# Altium footprint library PowerInductors.PCBLIB: 52 footprints (part 1 of 4)
Each footprint in its own frame and in the unit in brackets; x right, y up, seen from the top. Pads: shape width x height; smd on the part's side, far side on the other; paste and mask are expansions set on the pad; w line width, h text height; cw(c..) or ccw(c..) is an arc to the next point about the centre after c.
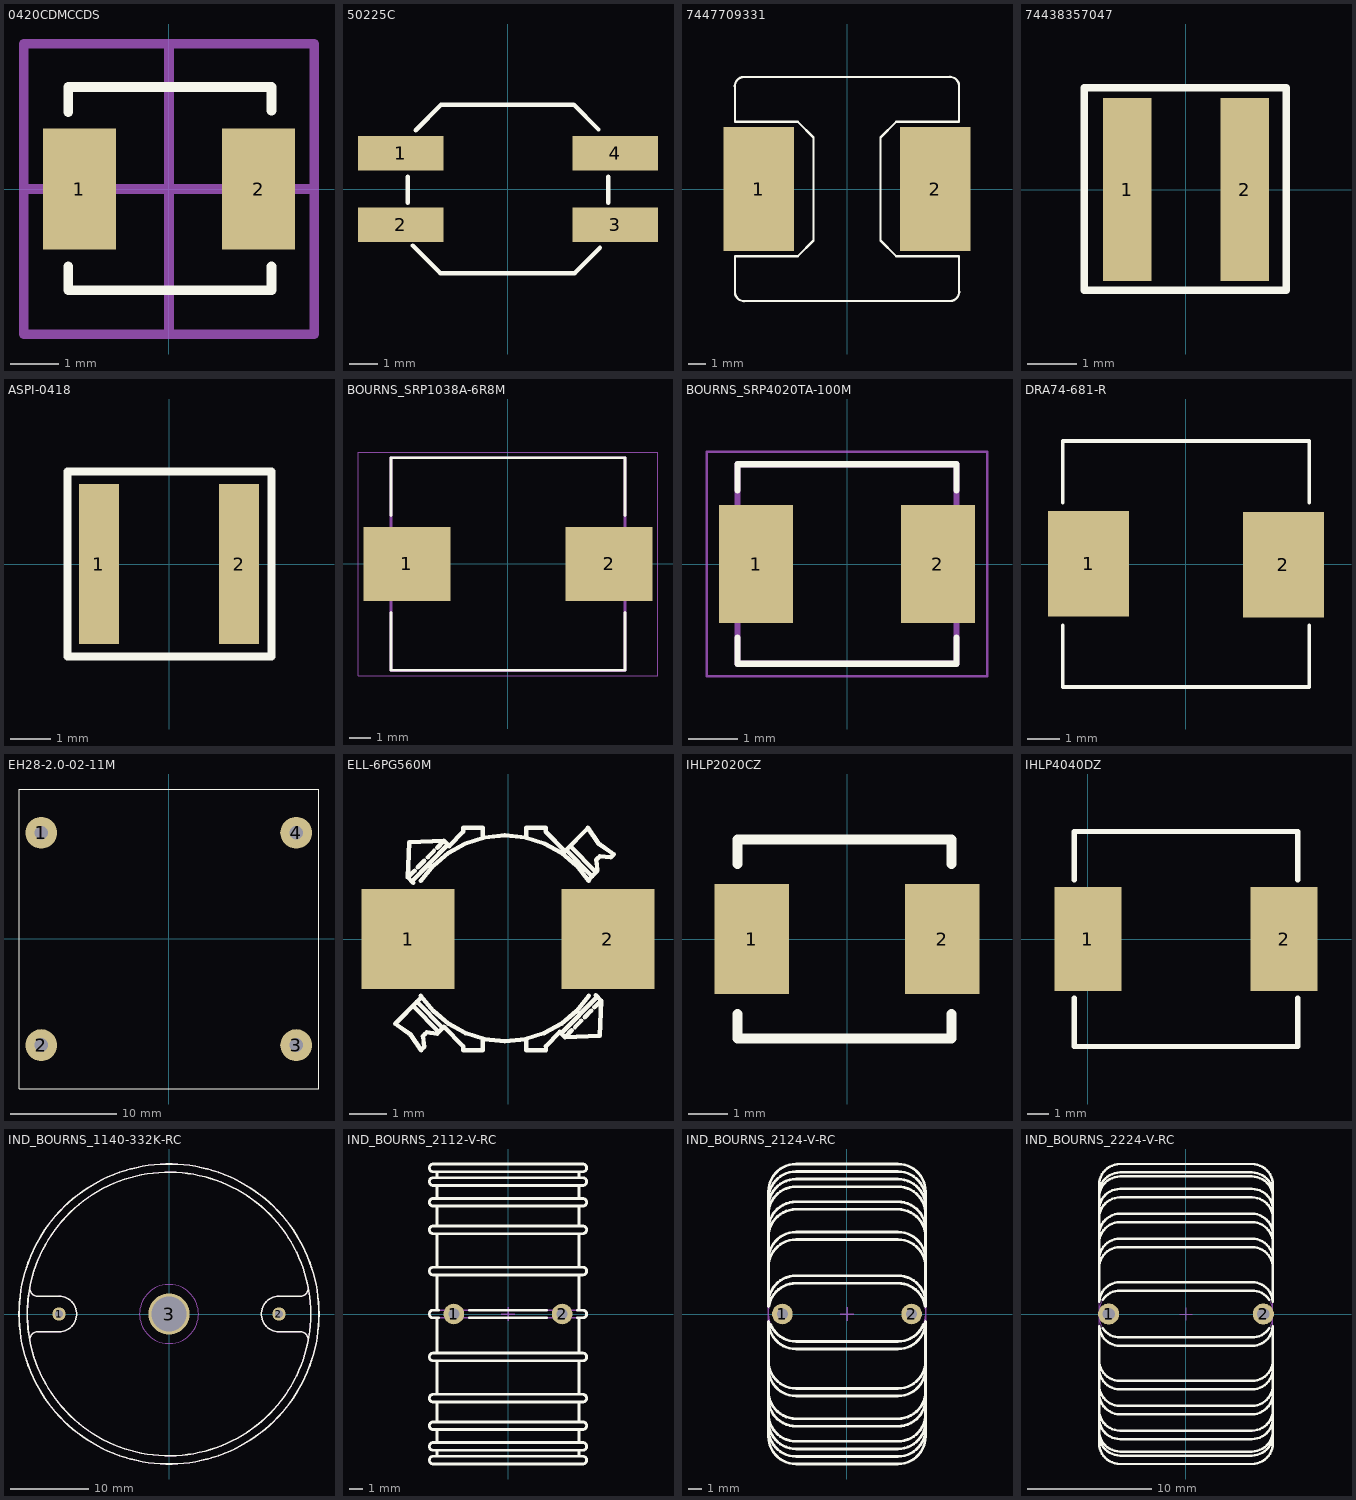
[diagram p0: the footprints below, top view; thin cyan lines are the x and y axes]

## 0420CDMCCDS [mm]
pads (2):
  rect 1.5x2.5 smd: 1(-1.85,0) 2(1.85,0)
Top Overlay:
  lines w0.2: -2.083,-1.6 -2.083,-2.092 2.117,-2.092 2.117,-1.6 ; -2.083,1.591 -2.083,2.083 ; -2.083,2.108 2.117,2.108 2.117,1.617
Mechanical 15:
  lines w0.2: -3,0 0,0 ; -3,0 -3,3 0,3 ; -3,0 -3,-3 0,-3 ; 0,-3 0,0 ; 0,-3 3,-3 3,0 ; 0,0 0,3 ; 0,0 3,0 ; 0,3 3,3 3,0
3D body: height 1.8, standoff 0, extent -2.083,-2.092 2.117,2.108
3D body: height 0.6, standoff 0, extent -2.358,-1.016 -1.85,1.016
3D body: height 0.6, standoff 0, extent 1.863,-1.016 2.371,1.016

## 50225C [mm]
pads (4):
  rect 3x1.2 smd mask+0.05: 1(-3.75,1.25) 2(-3.75,-1.25) 3(3.75,-1.25) 4(3.75,1.25)
Top Overlay:
  lines w0.15: -3.51,-0.479 -3.51,0.435 ; -3.333,-1.978 -2.367,-2.943 2.332,-2.943 3.221,-2.054 ; -3.231,2.061 -2.342,2.95 2.306,2.95 3.17,2.086 ; 3.51,-0.479 3.51,0.435
3D body "mps_mag_5000_smt_a.STEP": height 4.04, standoff 0.01, extent -4.605,-2.959 4.595,2.941

## 7447709331 [mm] "0.472\" L x 0.472\" A (12.00 mm x 12.00 mm) H 0.394\" (10.00 mm)"
pads (2):
  rect 4x7 smd: 1(-5,0) 2(5,0)
Top Overlay:
  lines w0.127: -6.35,-5.8 ccw(c-5.823,-5.827) -5.75,-6.35 5.8,-6.35 ccw(c5.827,-5.823) 6.35,-5.75 6.35,-3.81 2.794,-3.81 1.9,-2.916 1.9,2.916 2.794,3.81 6.35,3.81 6.35,5.8 ccw(c5.823,5.827) 5.75,6.35 -5.8,6.35 ccw(c-5.827,5.823) -6.35,5.75 -6.35,3.81 -2.794,3.81 -1.9,2.916 -1.9,-2.916 -2.794,-3.81 -6.35,-3.81 -6.35,-5.8
3D body: height 10, standoff 0, extent -5.842,-5.842 5.842,5.848
3D body: height 10.1, standoff 0, extent -5.08,-5.08 5.08,5.08
3D body: height 1.5, standoff 0, extent -6.159,-3.175 -5.524,3.175
3D body: height 1.5, standoff 0, extent 5.525,-3.175 6.16,3.175

## 74438357047 [mm]
pads (2):
  rect 0.98x3.7 smd: 1(-1.185,0) 2(1.185,0)
Top Overlay:
  lines w0.15: -2.057,-2.032 -2.057,2.057 2.032,2.057 2.032,-2.032 -2.057,-2.032
3D body "74438357047_Download_WE-MAPI-4030_stp_rev1.stp": height 3.11, standoff 0.01, extent -2.05,-2.05 2.05,2.05

## ASPI-0418 [mm]
pads (2):
  rect 1x4 smd: 1(-1.753,0) 2(1.753,0)
Top Overlay:
  lines w0.2: -2.54,-2.311 2.565,-2.311 2.565,2.311 2.134,2.311 -2.54,2.311 -2.54,-2.311
3D body "ASPI-0418FS.STEP": height 1.8, standoff 0, extent -2,-2.025 2,1.975

## BOURNS_SRP1038A-6R8M [mm] "0.433\" L x 0.394\" W (11.00mm x 10.00mm), 0.157\" (4.00mm) HEIGHT"
pads (2):
  rect 4.1x3.5 smd: 1(-4.75,0) 2(4.75,0)
Top Overlay:
  lines w0.127: -5.5,-2.28 -5.5,-5 5.5,-5 5.5,-2.28 ; -5.5,2.28 -5.5,5 5.5,5 5.5,2.28
Mechanical 13:
  lines w0.127: -5.5,5 5.5,5
  lines w0.13: -5.5,5 -5.5,-5 5.5,-5 5.5,5
Mechanical 15:
  lines w0.05: -7.05,-5.25 -7.05,5.25 7.05,5.25 7.05,-5.25 -7.05,-5.25
3D body "74437368010_Download_STP_WE-LHMI-1040_rev1.stp": height 3.8, standoff 0, extent -5.5,-5 5.5,5

## BOURNS_SRP4020TA-100M [mm] "0.175\" L x 0.160\" W (4.45mm x 4.06mm), 2 SMD"
pads (2):
  rect 1.5x2.4 smd: 1(-1.85,0) 2(1.85,0)
Top Overlay:
  lines w0.127: -2.225,-1.5 -2.225,-2.03 2.225,-2.03 2.225,-1.5 ; -2.225,1.5 -2.225,2.03 2.225,2.03 2.225,1.5
Mechanical 13:
  lines w0.127: -2.225,-2.03 2.225,-2.03 2.225,2.03 -2.225,2.03 -2.225,-2.03
Mechanical 15:
  lines w0.05: -2.85,-2.28 2.85,-2.28 2.85,2.28 -2.85,2.28 -2.85,-2.28
3D body "SRP4020TA-100M.STEP": height 2, standoff 0, extent -2.225,-2.03 2.225,2.03

## DRA74-681-R [mm]
pads (2):
  rect 2.5x3.25 smd: 1(-3,0.013) 2(3,-0.013)
Top Overlay:
  lines w0.12: -3.8,-1.889 -3.8,-3.787 3.8,-3.787 3.8,-1.889 ; -3.8,1.909 -3.8,3.807 3.8,3.807 3.8,1.909
3D body: height 4.3, standoff 0, extent -3.81,-3.759 3.785,3.787
3D body: height 4.35, standoff 1, extent -3.013,-2.986 2.987,3.014
3D body: height 1, standoff 0, extent 3.632,-1.626 4.013,1.626
3D body: height 1, standoff 0, extent -4.013,-1.626 -3.632,1.626

## EH28-2.0-02-11M [mm]
pads (4):
  round 3 hole 1.3: 1(-12,10) 2(-12,-10) 3(12,-10) 4(12,10)
Top Overlay:
  lines w0.1: -14.057,-14.13 -14.057,14.115 14.111,14.115 14.111,-14.13 -14.057,-14.13
3D body "eh_28-2_0-02-11m.stp": height 23.11, standoff -3.99, extent -14.061,-14.092 14.139,14.108

## ELL-6PG560M [mm]
pads (2):
  rect 2.5x2.7 smd: 1(-2.7,0) 2(2.7,0)
Top Overlay:
  lines w0.12: -2.599,1.561 -1.625,2.552 ; -2.564,-1.797 -1.868,-2.504 ; -2.564,1.526 -2.702,1.667 ; -2.52,1.853 -2.702,1.667 ; -2.459,-1.691 -1.764,-2.398 ; -2.433,1.942 -2.259,2.119 ; -2.35,-1.527 -2.016,-1.938 -1.611,-2.277 -1.147,-2.533 -0.633,-2.695 -0.082,-2.751 0.469,-2.695 0.983,-2.533 1.447,-2.277 1.852,-1.938 2.186,-1.527 ; -2.35,1.579 -2.016,1.99 -1.611,2.329 -1.147,2.585 -0.633,2.747 -0.082,2.803 0.469,2.747 0.983,2.585 1.447,2.329 1.852,1.99 2.186,1.579 ; -2.349,-1.582 -2.424,-1.656 -3.043,-2.285 -2.633,-2.575 -2.348,-2.992 -2.265,-2.907 -2.296,-2.614 ; -2.172,2.207 -1.998,2.384 ; -1.912,2.472 -1.729,2.657 ; -0.685,2.738 -0.685,3.006 -1.207,3.006 -1.207,2.906 -1.59,2.517 -1.729,2.657 ; -0.685,-2.726 -0.685,-2.994 -1.207,-2.994 -1.207,-2.894 -1.729,-2.362 -1.91,-2.547 -2.199,-2.515 ; 0.496,-2.732 0.496,-2.994 1.027,-2.994 1.026,-2.894 ; 0.496,2.744 0.496,3.006 1.018,3.006 ; 1.017,-2.894 1.4,-2.504 1.539,-2.645 ; 1.017,3.006 1.017,2.906 1.539,2.375 2.158,3.004 2.444,2.587 2.854,2.296 2.771,2.212 2.483,2.244 ; 1.435,-2.539 2.409,-1.55 ; 1.574,2.41 2.27,1.703 ; 1.678,2.517 2.374,1.809 ; 1.722,-2.46 1.539,-2.645 ; 1.809,-2.371 1.983,-2.194 ; 2.069,-2.106 2.243,-1.93 ; 2.178,1.608 2.235,1.667 2.416,1.852 2.385,2.145 ; 2.331,-1.842 2.513,-1.656 ; 2.374,-1.514 2.513,-1.656 ; -2.702,1.667 -2.667,2.623 -1.729,2.657 ; -2.296,-2.614 -2.199,-2.515 ; -2.296,-2.614 -2.247,-2.565 -2.199,-2.515 ; 1.539,-2.645 2.479,-2.61 2.513,-1.656 ; 2.385,2.145 2.483,2.245 ; 2.385,2.145 2.434,2.195 2.483,2.245
3D body "IND_ELL6PG.step": height 2.32, standoff 0.01, extent -3.486,-3.19 3.422,3.11

## IHLP2020CZ [mm]
pads (2):
  rect 1.905x2.79 smd: 1(-2.425,0) 2(2.425,0)
Top Overlay:
  lines w0.254: -2.794,-1.905 -2.794,-2.54 2.667,-2.54 2.667,-1.905 ; -2.794,1.905 -2.794,2.54 2.667,2.54 2.667,1.905
3D body "IHLP2020CZ.STEP": height 2.89, standoff 0.03, extent -2.725,-2.54 2.725,2.606

## IHLP4040DZ [mm]
pads (2):
  rect 3.175x4.9 smd: 1(0,0) 2(9.271,0)
Top Overlay:
  lines w0.254: -0.635,-2.794 -0.635,-5.08 9.906,-5.08 9.906,-2.794 ; -0.635,2.794 -0.635,5.08 9.906,5.08 9.906,2.794
3D body "IHLP4040DZ (2.2-100uH).STEP": height 3.89, standoff 0.01, extent -0.676,-5.108 9.947,5.108

## IND_BOURNS_1140-332K-RC [mm] "High Current Choke, Body Diameter 38.1mm Boby Height 26.162mm"
height 26.162
pads (3):
  round 1.7 hole 1: 1(-13.97,0) 2(13.97,0)
  round 5.2 / inner round 5.2 / far side round 7.5 hole 4.5: 3(0,0)
Top Overlay:
  circle w0.2: c0,0 r18
  circle w0.2: c0,0 r19.05
  lines w0.2: -17.668,-3.441 cw(c-16.686,-3.25) -16.686,-2.25 -13.97,-2.25 ccw(c-13.97,0) -13.97,2.25 -16.686,2.25 cw(c-16.686,3.25) -17.668,3.441 ; 17.668,-3.441 ccw(c16.686,-3.25) 16.686,-2.25 13.97,-2.25 cw(c13.97,0) 13.97,2.25 16.686,2.25 ccw(c16.686,3.25) 17.668,3.441
Mechanical 8:
  circle w0.1: c0,0 r3.75
  lines w0.1: -14.47,0 -13.97,0 ; -13.97,-0.5 -13.97,0 ; -13.97,0.5 -13.97,0 ; -13.47,0 -13.97,0 ; -0.5,0 0,0 ; 0,-0.5 0,0 ; 0,0.5 0,0 ; 0.5,0 0,0 ; 13.47,0 13.97,0 ; 13.97,-0.5 13.97,0 ; 13.97,0.5 13.97,0 ; 14.47,0 13.97,0
Mechanical 14:
  circle w0.1: c0,0 r18
  circle w0.1: c0,0 r2.25
  circle w0.1: c0,0 r19.05
  lines w0.1: -17.668,-3.441 cw(c-16.686,-3.25) -16.686,-2.25 -13.97,-2.25 ccw(c-13.97,0) -13.97,2.25 -16.686,2.25 cw(c-16.686,3.25) -17.668,3.441 ; 17.668,-3.441 ccw(c16.686,-3.25) 16.686,-2.25 13.97,-2.25 cw(c13.97,0) 13.97,2.25 16.686,2.25 ccw(c16.686,3.25) 17.668,3.441
3D body "IND_BOURNS_1140-332K-RC.stp": height 26.16, standoff -3.5, extent -19.05,-19.012 19.05,19.024

## IND_BOURNS_2112-V-RC [mm] "Vertical Leaded Toroidal Inductor Lead Spacing 7.87mm D21.84mm x W11.43mm"
height 21.84
pads (2):
  round 1.5 hole 0.8: 1(-3.937,0) 2(3.937,0)
Top Overlay:
  lines w0.2: -5.155,-10.34 -5.155,-9.9 ; -5.155,-9.34 -5.155,-8.4 ; -5.155,-7.84 -5.155,-6.4 ; -5.155,-5.84 -5.155,-3.4 ; -5.155,-2.84 -5.155,-0.28 ; -5.155,0.28 -5.155,2.84 ; -5.155,3.4 -5.155,5.84 ; -5.155,6.4 -5.155,7.84 ; -5.155,8.4 -5.155,9.34 ; -5.155,9.9 -5.155,10.34 ; -5.052,-0.28 -5.435,-0.28 cw(c-5.435,0) -5.435,0.28 -5.052,0.28 ; -2.822,-0.28 2.822,-0.28 ; -2.822,0.28 2.822,0.28 ; 5.052,-0.28 5.435,-0.28 ccw(c5.435,0) 5.435,0.28 ; 5.155,-10.34 5.155,-9.9 ; 5.155,-9.34 5.155,-8.4 ; 5.155,-7.84 5.155,-6.4 ; 5.155,-5.84 5.155,-3.4 ; 5.155,-2.84 5.155,-0.28 ; 5.155,0.28 5.155,2.84 ; 5.155,3.4 5.155,5.84 ; 5.155,6.4 5.155,7.84 ; 5.155,8.4 5.155,9.34 ; 5.155,9.9 5.155,10.34 ; 5.435,0.28 5.052,0.28 5.435,0.28 ; -5.435,-10.9 cw(c-5.435,-10.62) -5.435,-10.34 5.435,-10.34 cw(c5.435,-10.62) 5.435,-10.9 -5.435,-10.9 ; -5.435,-9.9 cw(c-5.435,-9.62) -5.435,-9.34 5.435,-9.34 cw(c5.435,-9.62) 5.435,-9.9 -5.435,-9.9 ; -5.435,-8.4 cw(c-5.435,-8.12) -5.435,-7.84 5.435,-7.84 cw(c5.435,-8.12) 5.435,-8.4 -5.435,-8.4 ; -5.435,-6.4 cw(c-5.435,-6.12) -5.435,-5.84 5.435,-5.84 cw(c5.435,-6.12) 5.435,-6.4 -5.435,-6.4 ; -5.435,-3.4 cw(c-5.435,-3.12) -5.435,-2.84 5.435,-2.84 cw(c5.435,-3.12) 5.435,-3.4 -5.435,-3.4 ; -5.435,2.84 cw(c-5.435,3.12) -5.435,3.4 5.435,3.4 cw(c5.435,3.12) 5.435,2.84 -5.435,2.84 ; -5.435,5.84 cw(c-5.435,6.12) -5.435,6.4 5.435,6.4 cw(c5.435,6.12) 5.435,5.84 -5.435,5.84 ; -5.435,7.84 cw(c-5.435,8.12) -5.435,8.4 5.435,8.4 cw(c5.435,8.12) 5.435,7.84 -5.435,7.84 ; -5.435,9.34 cw(c-5.435,9.62) -5.435,9.9 5.435,9.9 cw(c5.435,9.62) 5.435,9.34 -5.435,9.34 ; -5.435,10.34 cw(c-5.435,10.62) -5.435,10.9 5.435,10.9 cw(c5.435,10.62) 5.435,10.34 -5.435,10.34
Mechanical 8:
  lines w0.1: -4.437,0 -3.937,0 ; -3.937,-0.5 -3.937,0 ; -3.937,0.5 -3.937,0 ; -3.437,0 -3.937,0 ; -0.5,0 0,0 ; 0,-0.5 0,0 ; 0,0.5 0,0 ; 0.5,0 0,0 ; 3.437,0 3.937,0 ; 3.937,-0.5 3.937,0 ; 3.937,0.5 3.937,0 ; 4.437,0 3.937,0
Mechanical 14:
  lines w0.1: -5.155,-10.34 -5.155,-9.9 ; -5.155,-9.34 -5.155,-8.4 ; -5.155,-7.84 -5.155,-6.4 ; -5.155,-5.84 -5.155,-3.4 ; -5.155,-2.84 -5.155,-0.28 ; -5.155,0.28 -5.155,2.84 ; -5.155,3.4 -5.155,5.84 ; -5.155,6.4 -5.155,7.84 ; -5.155,8.4 -5.155,9.34 ; -5.155,9.9 -5.155,10.34 ; 5.155,-10.34 5.155,-9.9 ; 5.155,-9.34 5.155,-8.4 ; 5.155,-7.84 5.155,-6.4 ; 5.155,-5.84 5.155,-3.4 ; 5.155,-2.84 5.155,-0.28 ; 5.155,0.28 5.155,2.84 ; 5.155,3.4 5.155,5.84 ; 5.155,6.4 5.155,7.84 ; 5.155,8.4 5.155,9.34 ; 5.155,9.9 5.155,10.34 ; -5.435,-10.9 cw(c-5.435,-10.62) -5.435,-10.34 5.435,-10.34 cw(c5.435,-10.62) 5.435,-10.9 -5.435,-10.9 ; -5.435,-9.9 cw(c-5.435,-9.62) -5.435,-9.34 5.435,-9.34 cw(c5.435,-9.62) 5.435,-9.9 -5.435,-9.9 ; -5.435,-8.4 cw(c-5.435,-8.12) -5.435,-7.84 5.435,-7.84 cw(c5.435,-8.12) 5.435,-8.4 -5.435,-8.4 ; -5.435,-6.4 cw(c-5.435,-6.12) -5.435,-5.84 5.435,-5.84 cw(c5.435,-6.12) 5.435,-6.4 -5.435,-6.4 ; -5.435,-3.4 cw(c-5.435,-3.12) -5.435,-2.84 5.435,-2.84 cw(c5.435,-3.12) 5.435,-3.4 -5.435,-3.4 ; -5.435,-0.28 cw(c-5.435,0) -5.435,0.28 5.435,0.28 cw(c5.435,0) 5.435,-0.28 -5.435,-0.28 ; -5.435,2.84 cw(c-5.435,3.12) -5.435,3.4 5.435,3.4 cw(c5.435,3.12) 5.435,2.84 -5.435,2.84 ; -5.435,5.84 cw(c-5.435,6.12) -5.435,6.4 5.435,6.4 cw(c5.435,6.12) 5.435,5.84 -5.435,5.84 ; -5.435,7.84 cw(c-5.435,8.12) -5.435,8.4 5.435,8.4 cw(c5.435,8.12) 5.435,7.84 -5.435,7.84 ; -5.435,9.34 cw(c-5.435,9.62) -5.435,9.9 5.435,9.9 cw(c5.435,9.62) 5.435,9.34 -5.435,9.34 ; -5.435,10.34 cw(c-5.435,10.62) -5.435,10.9 5.435,10.9 cw(c5.435,10.62) 5.435,10.34 -5.435,10.34
3D body "IND_BOURNS_2112-V-RC.stp": height 21.8, standoff -3.32, extent -5.715,-10.9 5.715,10.9

## IND_BOURNS_2124-V-RC [mm] "Vertical Leaded Toroidal Inductor Lead Spacing  9.39mm D21.84mm x W11.43mm"
height 21.84
pads (2):
  round 1.5 hole 0.8: 1(-4.7,0) 2(4.7,0)
Top Overlay:
  lines w0.2: -5.715,-8.37 ccw(c-3.715,-8.37) -3.715,-10.37 3.715,-10.37 ccw(c3.715,-8.37) 5.715,-8.37 ; -5.715,-7.82 ccw(c-3.715,-7.82) -3.715,-9.82 3.715,-9.82 ccw(c3.715,-7.82) 5.715,-7.82 ; -5.715,-7.27 ccw(c-3.715,-7.27) -3.715,-9.27 3.715,-9.27 ccw(c3.715,-7.27) 5.715,-7.27 ; -5.715,-6.17 ccw(c-3.715,-6.17) -3.715,-8.17 3.715,-8.17 ccw(c3.715,-6.17) 5.715,-6.17 ; -5.715,-5.62 ccw(c-3.715,-5.62) -3.715,-7.62 3.715,-7.62 ccw(c3.715,-5.62) 5.715,-5.62 ; -5.715,-3.97 ccw(c-3.715,-3.97) -3.715,-5.97 3.715,-5.97 ccw(c3.715,-3.97) 5.715,-3.97 ; -5.715,-3.42 ccw(c-3.715,-3.42) -3.715,-5.42 3.715,-5.42 ccw(c3.715,-3.42) 5.715,-3.42 ; -5.715,-0.55 ccw(c-3.715,-0.55) -3.715,-2.55 3.715,-2.55 ccw(c3.715,-0.55) 5.715,-0.55 ; -5.715,-0.541 -5.715,-8.92 ccw(c-3.715,-8.92) -3.715,-10.92 3.715,-10.92 ccw(c3.715,-8.92) 5.715,-8.92 5.715,-0.541 ; -5.715,0.541 -5.715,8.92 cw(c-3.715,8.92) -3.715,10.92 3.715,10.92 cw(c3.715,8.92) 5.715,8.92 5.715,0.541 ; -5.715,0.79 cw(c-3.715,0.79) -3.715,2.79 3.715,2.79 cw(c3.715,0.79) 5.715,0.79 ; -5.715,3.42 cw(c-3.715,3.42) -3.715,5.42 3.715,5.42 cw(c3.715,3.42) 5.715,3.42 ; -5.715,3.97 cw(c-3.715,3.97) -3.715,5.97 3.715,5.97 cw(c3.715,3.97) 5.715,3.97 ; -5.715,5.62 cw(c-3.715,5.62) -3.715,7.62 3.715,7.62 cw(c3.715,5.62) 5.715,5.62 ; -5.715,6.17 cw(c-3.715,6.17) -3.715,8.17 3.715,8.17 cw(c3.715,6.17) 5.715,6.17 ; -5.715,7.27 cw(c-3.715,7.27) -3.715,9.27 3.715,9.27 cw(c3.715,7.27) 5.715,7.27 ; -5.715,7.82 cw(c-3.715,7.82) -3.715,9.82 3.715,9.82 cw(c3.715,7.82) 5.715,7.82 ; -5.715,8.37 cw(c-3.715,8.37) -3.715,10.37 3.715,10.37 cw(c3.715,8.37) 5.715,8.37 ; -5.683,0.597 cw(c-3.715,0.24) -3.715,2.24 3.715,2.24 cw(c3.715,0.24) 5.683,0.597 ; -5.567,-0.756 ccw(c-3.715,0) -3.715,-2 3.715,-2 ccw(c3.715,0) 5.567,-0.756
Mechanical 8:
  lines w0.1: -5.2,0 -4.7,0 ; -4.7,-0.5 -4.7,0 ; -4.7,0.5 -4.7,0 ; -4.2,0 -4.7,0 ; -0.5,0 0,0 ; 0,-0.5 0,0 ; 0,0.5 0,0 ; 0.5,0 0,0 ; 4.2,0 4.7,0 ; 4.7,-0.5 4.7,0 ; 4.7,0.5 4.7,0 ; 5.2,0 4.7,0
Mechanical 14:
  lines w0.1: -5.715,-8.37 ccw(c-3.715,-8.37) -3.715,-10.37 3.715,-10.37 ccw(c3.715,-8.37) 5.715,-8.37 ; -5.715,-7.82 ccw(c-3.715,-7.82) -3.715,-9.82 3.715,-9.82 ccw(c3.715,-7.82) 5.715,-7.82 ; -5.715,-7.27 ccw(c-3.715,-7.27) -3.715,-9.27 3.715,-9.27 ccw(c3.715,-7.27) 5.715,-7.27 ; -5.715,-6.17 ccw(c-3.715,-6.17) -3.715,-8.17 3.715,-8.17 ccw(c3.715,-6.17) 5.715,-6.17 ; -5.715,-5.62 ccw(c-3.715,-5.62) -3.715,-7.62 3.715,-7.62 ccw(c3.715,-5.62) 5.715,-5.62 ; -5.715,-3.97 ccw(c-3.715,-3.97) -3.715,-5.97 3.715,-5.97 ccw(c3.715,-3.97) 5.715,-3.97 ; -5.715,-3.42 ccw(c-3.715,-3.42) -3.715,-5.42 3.715,-5.42 ccw(c3.715,-3.42) 5.715,-3.42 ; -5.715,-0.55 ccw(c-3.715,-0.55) -3.715,-2.55 3.715,-2.55 ccw(c3.715,-0.55) 5.715,-0.55 ; -5.715,0 ccw(c-3.715,0) -3.715,-2 3.715,-2 ccw(c3.715,0) 5.715,0 ; -5.715,0.24 cw(c-3.715,0.24) -3.715,2.24 3.715,2.24 cw(c3.715,0.24) 5.715,0.24 ; -5.715,0.79 cw(c-3.715,0.79) -3.715,2.79 3.715,2.79 cw(c3.715,0.79) 5.715,0.79 ; -5.715,3.42 cw(c-3.715,3.42) -3.715,5.42 3.715,5.42 cw(c3.715,3.42) 5.715,3.42 ; -5.715,3.97 cw(c-3.715,3.97) -3.715,5.97 3.715,5.97 cw(c3.715,3.97) 5.715,3.97 ; -5.715,5.62 cw(c-3.715,5.62) -3.715,7.62 3.715,7.62 cw(c3.715,5.62) 5.715,5.62 ; -5.715,6.17 cw(c-3.715,6.17) -3.715,8.17 3.715,8.17 cw(c3.715,6.17) 5.715,6.17 ; -5.715,7.27 cw(c-3.715,7.27) -3.715,9.27 3.715,9.27 cw(c3.715,7.27) 5.715,7.27 ; -5.715,7.82 cw(c-3.715,7.82) -3.715,9.82 3.715,9.82 cw(c3.715,7.82) 5.715,7.82 ; -5.715,8.37 cw(c-3.715,8.37) -3.715,10.37 3.715,10.37 cw(c3.715,8.37) 5.715,8.37 ; -5.715,-8.92 ccw(c-3.715,-8.92) -3.715,-10.92 3.715,-10.92 ccw(c3.715,-8.92) 5.715,-8.92 5.715,8.92 ccw(c3.715,8.92) 3.715,10.92 -3.715,10.92 ccw(c-3.715,8.92) -5.715,8.92 -5.715,-8.92
3D body "IND_BOURNS_2124-V-RC.stp": height 21.83, standoff -3.32, extent -5.715,-10.91 5.715,10.911

## IND_BOURNS_2224-V-RC [mm] "Vertical Leaded Toroidal Inductor Lead Spacing  12.44mm D24.13mm x W13.97mm"
height 24.13
pads (2):
  round 1.7 hole 1: 1(-6.22,0) 2(6.22,0)
Top Overlay:
  lines w0.2: -6.985,-9.705 ccw(c-5.305,-9.705) -5.305,-11.385 5.305,-11.385 ccw(c5.305,-9.705) 6.985,-9.705 ; -6.985,-9.385 ccw(c-5.305,-9.385) -5.305,-11.065 5.305,-11.065 ccw(c5.305,-9.385) 6.985,-9.385 ; -6.985,-8.385 ccw(c-5.305,-8.385) -5.305,-10.065 5.305,-10.065 ccw(c5.305,-8.385) 6.985,-8.385 ; -6.985,-7.705 ccw(c-5.305,-7.705) -5.305,-9.385 5.305,-9.385 ccw(c5.305,-7.705) 6.985,-7.705 ; -6.985,-6.385 ccw(c-5.305,-6.385) -5.305,-8.065 5.305,-8.065 ccw(c5.305,-6.385) 6.985,-6.385 ; -6.985,-5.705 ccw(c-5.305,-5.705) -5.305,-7.385 5.305,-7.385 ccw(c5.305,-5.705) 6.985,-5.705 ; -6.985,-4.385 ccw(c-5.305,-4.385) -5.305,-6.065 5.305,-6.065 ccw(c5.305,-4.385) 6.985,-4.385 ; -6.985,-3.705 ccw(c-5.305,-3.705) -5.305,-5.385 5.305,-5.385 ccw(c5.305,-3.705) 6.985,-3.705 ; -6.985,-0.989 -6.985,-10.385 ccw(c-5.305,-10.385) -5.305,-12.065 5.305,-12.065 ccw(c5.305,-10.385) 6.985,-10.385 6.985,-0.989 ; -6.985,0.989 -6.985,10.385 cw(c-5.305,10.385) -5.305,12.065 5.305,12.065 cw(c5.305,10.385) 6.985,10.385 6.985,0.989 ; -6.985,3.705 cw(c-5.305,3.705) -5.305,5.385 5.305,5.385 cw(c5.305,3.705) 6.985,3.705 ; -6.985,4.385 cw(c-5.305,4.385) -5.305,6.065 5.305,6.065 cw(c5.305,4.385) 6.985,4.385 ; -6.985,5.705 cw(c-5.305,5.705) -5.305,7.385 5.305,7.385 cw(c5.305,5.705) 6.985,5.705 ; -6.985,6.385 cw(c-5.305,6.385) -5.305,8.065 5.305,8.065 cw(c5.305,6.385) 6.985,6.385 ; -6.985,7.705 cw(c-5.305,7.705) -5.305,9.385 5.305,9.385 cw(c5.305,7.705) 6.985,7.705 ; -6.985,8.385 cw(c-5.305,8.385) -5.305,10.065 5.305,10.065 cw(c5.305,8.385) 6.985,8.385 ; -6.985,9.385 cw(c-5.305,9.385) -5.305,11.065 5.305,11.065 cw(c5.305,9.385) 6.985,9.385 ; -6.985,9.705 cw(c-5.305,9.705) -5.305,11.385 5.305,11.385 cw(c5.305,9.705) 6.985,9.705 ; -6.982,-0.991 ccw(c-5.305,-0.885) -5.305,-2.565 5.305,-2.565 ccw(c5.305,-0.885) 6.982,-0.991 ; -6.982,0.991 cw(c-5.305,0.885) -5.305,2.565 5.305,2.565 cw(c5.305,0.885) 6.982,0.991 ; -6.688,-1.159 ccw(c-5.305,-0.205) -5.305,-1.885 5.305,-1.885 ccw(c5.305,-0.205) 6.688,-1.159 ; -6.688,1.159 cw(c-5.305,0.205) -5.305,1.885 5.305,1.885 cw(c5.305,0.205) 6.688,1.159
Mechanical 8:
  lines w0.1: -6.72,0 -6.22,0 ; -6.22,-0.5 -6.22,0 ; -6.22,0.5 -6.22,0 ; -5.72,0 -6.22,0 ; -0.5,0 0,0 ; 0,-0.5 0,0 ; 0,0.5 0,0 ; 0.5,0 0,0 ; 5.72,0 6.22,0 ; 6.22,-0.5 6.22,0 ; 6.22,0.5 6.22,0 ; 6.72,0 6.22,0
Mechanical 14:
  lines w0.1: -6.985,-9.705 ccw(c-5.305,-9.705) -5.305,-11.385 5.305,-11.385 ccw(c5.305,-9.705) 6.985,-9.705 ; -6.985,-9.385 ccw(c-5.305,-9.385) -5.305,-11.065 5.305,-11.065 ccw(c5.305,-9.385) 6.985,-9.385 ; -6.985,-8.385 ccw(c-5.305,-8.385) -5.305,-10.065 5.305,-10.065 ccw(c5.305,-8.385) 6.985,-8.385 ; -6.985,-7.705 ccw(c-5.305,-7.705) -5.305,-9.385 5.305,-9.385 ccw(c5.305,-7.705) 6.985,-7.705 ; -6.985,-6.385 ccw(c-5.305,-6.385) -5.305,-8.065 5.305,-8.065 ccw(c5.305,-6.385) 6.985,-6.385 ; -6.985,-5.705 ccw(c-5.305,-5.705) -5.305,-7.385 5.305,-7.385 ccw(c5.305,-5.705) 6.985,-5.705 ; -6.985,-4.385 ccw(c-5.305,-4.385) -5.305,-6.065 5.305,-6.065 ccw(c5.305,-4.385) 6.985,-4.385 ; -6.985,-3.705 ccw(c-5.305,-3.705) -5.305,-5.385 5.305,-5.385 ccw(c5.305,-3.705) 6.985,-3.705 ; -6.985,-0.885 ccw(c-5.305,-0.885) -5.305,-2.565 5.305,-2.565 ccw(c5.305,-0.885) 6.985,-0.885 ; -6.985,-0.205 ccw(c-5.305,-0.205) -5.305,-1.885 5.305,-1.885 ccw(c5.305,-0.205) 6.985,-0.205 ; -6.985,0.205 cw(c-5.305,0.205) -5.305,1.885 5.305,1.885 cw(c5.305,0.205) 6.985,0.205 ; -6.985,0.885 cw(c-5.305,0.885) -5.305,2.565 5.305,2.565 cw(c5.305,0.885) 6.985,0.885 ; -6.985,3.705 cw(c-5.305,3.705) -5.305,5.385 5.305,5.385 cw(c5.305,3.705) 6.985,3.705 ; -6.985,4.385 cw(c-5.305,4.385) -5.305,6.065 5.305,6.065 cw(c5.305,4.385) 6.985,4.385 ; -6.985,5.705 cw(c-5.305,5.705) -5.305,7.385 5.305,7.385 cw(c5.305,5.705) 6.985,5.705 ; -6.985,6.385 cw(c-5.305,6.385) -5.305,8.065 5.305,8.065 cw(c5.305,6.385) 6.985,6.385 ; -6.985,7.705 cw(c-5.305,7.705) -5.305,9.385 5.305,9.385 cw(c5.305,7.705) 6.985,7.705 ; -6.985,8.385 cw(c-5.305,8.385) -5.305,10.065 5.305,10.065 cw(c5.305,8.385) 6.985,8.385 ; -6.985,9.385 cw(c-5.305,9.385) -5.305,11.065 5.305,11.065 cw(c5.305,9.385) 6.985,9.385 ; -6.985,9.705 cw(c-5.305,9.705) -5.305,11.385 5.305,11.385 cw(c5.305,9.705) 6.985,9.705 ; -6.985,-10.385 ccw(c-5.305,-10.385) -5.305,-12.065 5.305,-12.065 ccw(c5.305,-10.385) 6.985,-10.385 6.985,10.385 ccw(c5.305,10.385) 5.305,12.065 -5.305,12.065 ccw(c-5.305,10.385) -6.985,10.385 -6.985,-10.385
3D body "IND_BOURNS_2224-V-RC.stp": height 24.13, standoff -3.32, extent -6.985,-12.065 6.985,12.065